# Altium footprint library диоды.PcbLib: 19 footprints (part 1 of 2)
Each footprint in its own frame and in the unit in brackets; x right, y up, seen from the top. Pads: shape width x height; smd on the part's side, far side on the other; paste and mask are expansions set on the pad; w line width, h text height; cw(c..) or ccw(c..) is an arc to the next point about the centre after c.
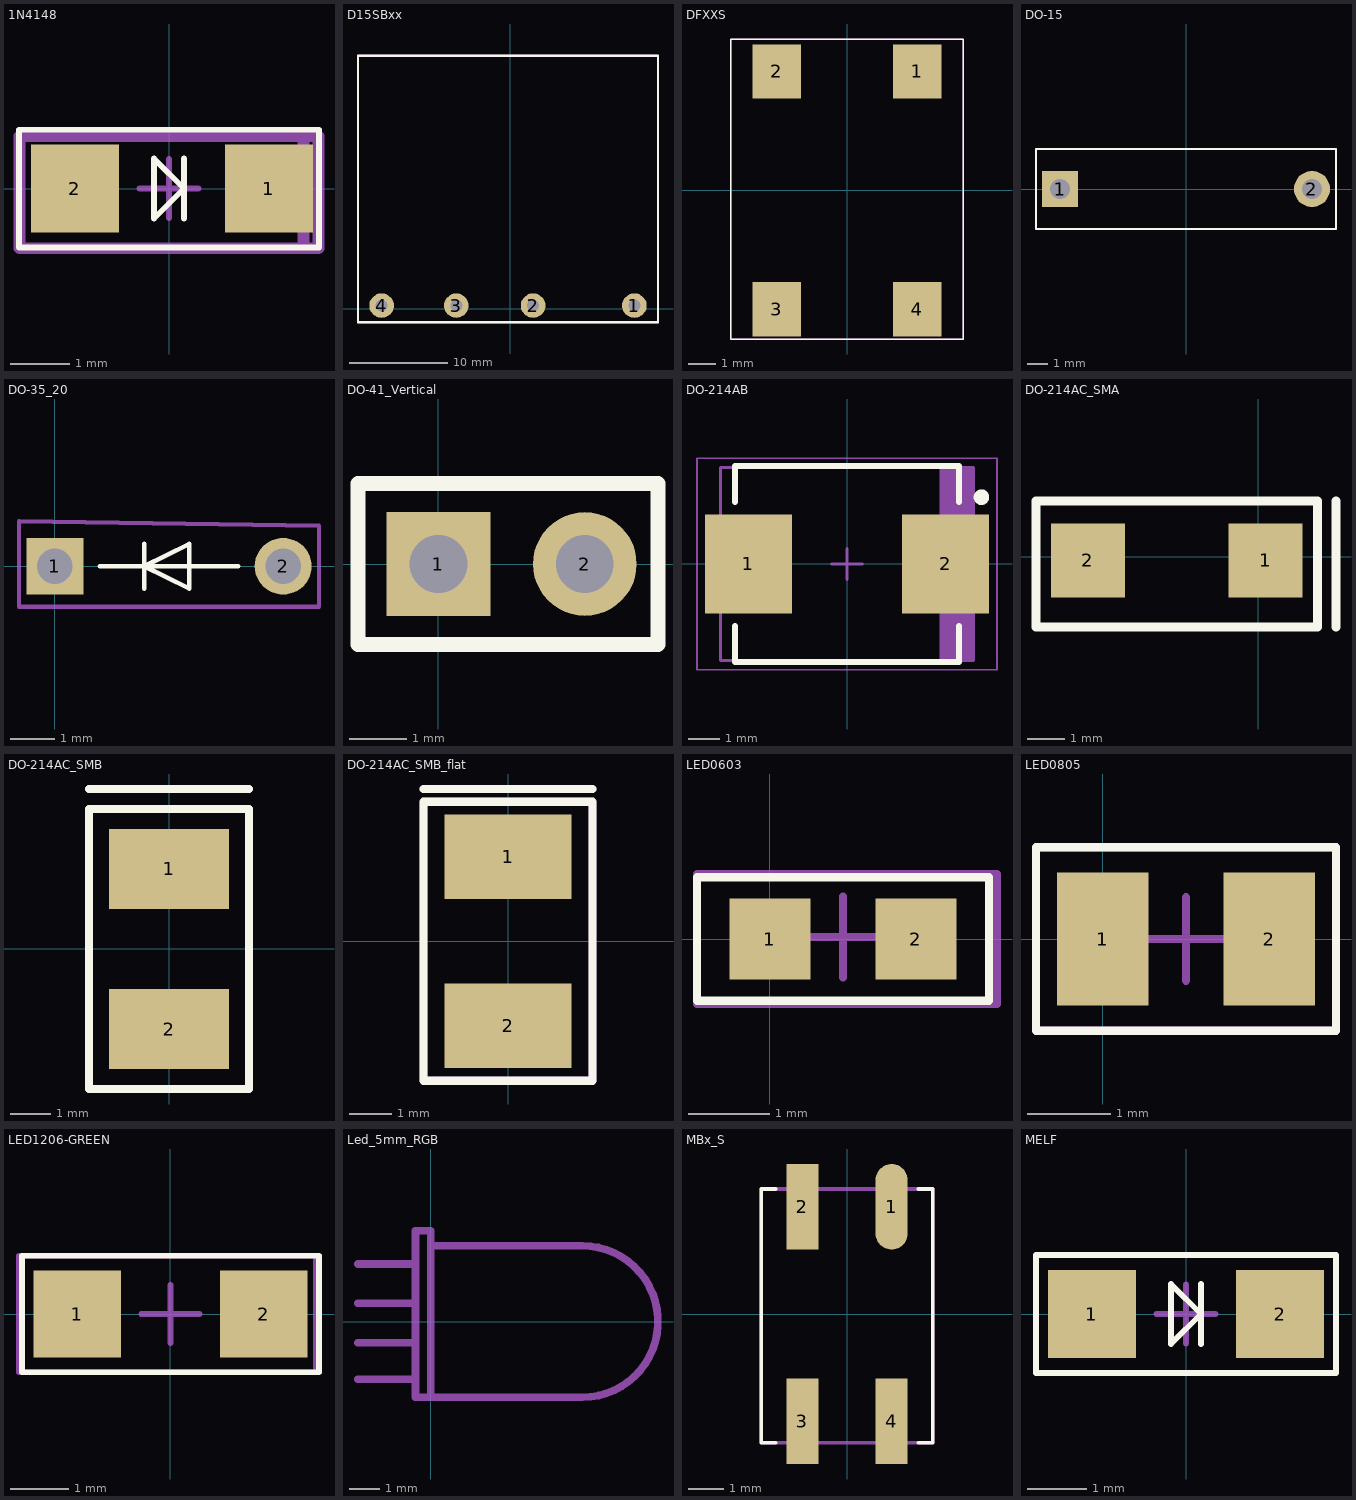
[diagram p0: the footprints below, top view; thin cyan lines are the x and y axes]

## 1N4148 [mm]
pads (2):
  rect 1.5x1.5 smd: 1(1.7,0) 2(-1.6,0)
Top Overlay:
  lines w0.1: 0.254,-0.508 0.254,0.508 ; -2.55,-1 2.55,-1 2.55,1 -2.55,1 -2.55,-1 ; -0.254,-0.508 -0.254,0.508 0.254,0 -0.254,-0.508
Top Assy:
  lines w0.2: 2.286,-1.016 2.286,0.889 ; -2.54,-1.016 -2.54,0.889 2.54,0.889 2.54,-1.016 -2.54,-1.016
  text ".Designator" at -2.14,0.284 h1.52
Mechanical 15:
  lines w0.1: -0.5,0 0.5,0 ; 0,-0.5 0,0.5
3D body "LL4148.step": height 1.6, standoff 0, extent -1.82,-0.8 1.88,0.8

## D15SBxx [mm]
pads (4):
  round 2.5 hole 1.2: 1(12.6,0.3) 2(2.3,0.3) 3(-5.5,0.3) 4(-13.1,0.3)
Top Overlay:
  lines w0.254: -15.5,-1.4 15,-1.4 15,25.7 -15.5,25.7 -15.5,-1.4
Top Assy:
  lines w0.254: -15.5,-1.4 -15.5,25.7 15,25.7 15,-1.4 -15.5,-1.4
  text ".Designator" at -5.6,14.6 h1
3D body "D15SB100.stp": height 5, standoff -1.4, extent -15.45,-0.1 14.85,25.6

## DFXXS [mm]
pads (4):
  rect 1.8x2 smd: 1(2.6,4.4) 2(-2.6,4.4) 3(-2.6,-4.4) 4(2.6,-4.4)
Top Overlay:
  lines w0.05: -4.3,-5.5 -4.3,5.6 4.3,5.6 4.3,-5.5 -4.3,-5.5
Top Assy:
  lines w0.05: -4.3,-5.5 -4.3,5.6 4.3,5.6 4.3,-5.5 -4.3,-5.5
3D body "мост_DFXXS.step": height 3.55, standoff -0.02, extent -4.255,-5.15 4.255,5.15

## DO-15 [mm]
pads (2):
  rect 1.8x1.8 hole 1: 1(-6.3,0)
  round 1.8 hole 1: 2(6.3,0)
Top Overlay:
  lines w0.1: -7.5,-2 -7.5,2 7.5,2 7.5,-2 -7.5,-2
Top Assy:
  lines w0.1: -7.5,-2 -7.5,2 ; -7.5,-2 7.5,-2 7.5,2 -7.5,2 ; -7.5,-2 -7.5,2
  text ".Designator" at -3.1,-0.4 h1
3D body "DO-15 12_7mm.step": height 5, standoff -2.5, extent -6.78,-2 6.78,2

## DO-35_20 [mm]
pads (2):
  rect 1.27x1.27 hole 0.8: 1(0,0)
  round 1.27 hole 0.8: 2(5.1,0)
Top Overlay:
  lines w0.1: 1,0 4.1,0 ; 2,-0.5 2,0.5 ; 2,0 3,0.5 3,-0.5 2,0
Top Assy:
  lines w0.1: -0.8,-0.9 -0.8,1 5.9,0.9 5.9,-0.9 -0.8,-0.9
3D body "DO-35G-20.step": height 1.82, standoff -2, extent -0.215,-0.901 5.415,0.901

## DO-41_Vertical [mm]
pads (2):
  rect 1.8x1.8 hole 1: 1(0,0)
  round 1.8 hole 1: 2(2.54,0)
Top Overlay:
  lines w0.254: -1.397,-1.397 -1.397,1.397 3.81,1.397 3.81,-1.397 -1.397,-1.397
3D body "User Library-Diod DO-41 Vertical.STEP": height 9.64, standoff -4.5, extent -1.365,-1.365 2.97,1.365

## DO-214AB [mm] "DO-214AB, SMC"
height 2.6
pads (2):
  rect 2.8x3.2 smd: 1(-3.175,0) 2(3.175,0)
Top Overlay:
  circle w0.25: c4.325,2.15 r0.125
  lines w0.2: -3.6,-2 -3.6,-3.15 3.6,-3.15 3.6,-2 ; -3.6,2 -3.6,3.15 3.6,3.15 3.6,2
Mechanical 13:
  rectangle: 2.972,-3.11 4.065,3.11
  lines w0.1: -4.065,-3.11 -4.065,3.11 4.065,3.11 4.065,-3.11 -4.065,-3.11
Mechanical 15:
  lines w0.05: -4.825,-3.4 -4.825,3.4 4.825,3.4 4.825,-3.4 -4.825,-3.4
  lines w0.1: -0.5,0 0.5,0 ; 0,-0.5 0,0.5
3D body "User Library-DO-214AB(SMC).STEP": height 2.62, standoff -0.02, extent -4.264,-3.15 3.864,3.15

## DO-214AC_SMA [mm]
pads (2):
  rect 2x2 smd: 1(0.2,-0.1) 2(-4.6,-0.1)
Top Overlay:
  lines w0.254: 2.1,-1.9 2.1,1.5 ; -6,-1.9 -6,1.5 -5.5,1.5 1.6,1.5 1.6,-1.9 -5.5,-1.9 -6,-1.9
3D body "User Library-DO-214AC(SMA).STEP": height 2.34, standoff 0.06, extent -4.943,-1.597 0.543,1.197

## DO-214AC_SMB [mm]
pads (2):
  rect 3x2 smd: 1(0,2) 2(0,-2)
Top Overlay:
  lines w0.2: -2,4 2,4 ; -2,-3.5 2,-3.5 2,3.5 -2,3.5 -2,-3.5
Top Assy:
  lines w0.2: -2,4 2,4 ; -2,-3.5 2,-3.5 2,3.5 -2,3.5 -2,-3.5
  text ".Designator" at -0.4,3 h1.52
3D body "DO-214AA SMB.step": height 2.4, standoff 0.1, extent -1.8,-2.7 1.8,2.7

## DO-214AC_SMB_flat [mm]
pads (2):
  rect 3x2 smd: 1(0,2) 2(0,-2)
Top Overlay:
  lines w0.2: -2,3.6 2,3.6 ; -2,-3.3 2,-3.3 2,3.3 -2,3.3 -2,-3.3
Top Assy:
  lines w0.2: -2,3.6 2,3.6 ; -2,-3.3 2,-3.3 2,3.3 -2,3.3 -2,-3.3
  text ".Designator" at -0.4,3 h1.52
3D body "SMBflat.step": height 1, standoff 0, extent -1.975,-2.9 1.975,2.9

## LED0603 [mm]
pads (2):
  rect 1x1 smd: 1(0,0) 2(1.8,0)
Top Overlay:
  lines w0.1: -0.9,-0.762 2.7,-0.762 2.7,0.762 -0.9,0.762 -0.9,-0.762
Top Assy:
  lines w0.1: -0.9,-0.8 -0.9,0.8 2.8,0.8 2.8,-0.8 -0.9,-0.8
  text ".Designator" at -2,-0.3 h1.52
Mechanical 15:
  lines w0.1: 0.4,0.025 1.4,0.025 ; 0.9,-0.475 0.9,0.525
3D body "R0603.STEP": height 0.56, standoff 0, extent 0.05,-0.375 1.75,0.425

## LED0805 [mm]
pads (2):
  rect 1.1x1.6 smd: 1(0,0) 2(2,0)
Top Overlay:
  lines w0.1: -0.8,-1.1 -0.8,1.1 2.8,1.1 2.8,-1.1 -0.8,-1.1
Top Assy:
  lines w0.1: -0.8,-1.1 2.8,-1.1 2.8,1.1 -0.8,1.1 -0.8,-1.1
  text ".Designator" at -2.1,-0.4 h1.52
Mechanical 15:
  lines w0.1: 0.5,0 1.5,0 ; 1,-0.5 1,0.5
3D body "R0805.STEP": height 0.76, standoff 0, extent -0.15,-0.675 2.15,0.675

## LED1206-GREEN [mm]
pads (2):
  rect 1.5x1.5 smd: 1(-1.6,0) 2(1.6,0)
Top Overlay:
  lines w0.1: -2.55,-1 -2.55,1 2.55,1 2.55,-1 -2.55,-1
Top Assy:
  lines w0.1: -2.6,-1 -2.6,1 2.5,1 2.5,-1 -2.6,-1
  text ".Designator" at -3,-0.4 h1.52
Mechanical 15:
  lines w0.1: -0.5,0 0.5,0 ; 0,-0.5 0,0.5
3D body "LED 1206.STEP": height 1.1, standoff 0, extent -1.6,-0.8 1.6,0.8

## Led_5mm_RGB [mm]
Mechanical 15:
  lines w0.254: -2.4,-1.9 -0.5,-1.9 ; -2.4,-0.7 -0.5,-0.7 ; -2.4,0.6 -0.5,0.6 ; -2.4,1.9 -0.5,1.9 ; 0,2.5 5,2.5 cw(c5,0) 5,-2.5 0,-2.5 ; 0,-2.5 0,3 -0.5,3 -0.5,-2.5 0,-2.5

## MBx_S [mm]
pads (4):
  oval 0.9x2.4 smd: 1(1.25,3)
  rect 0.9x2.4 smd: 2(-1.25,3) 3(-1.25,-3) 4(1.25,-3)
Top Overlay:
  lines w0.1: -2,-3.6 -2.4,-3.6 -2.4,3.5 -2,3.5 ; 2,-3.6 2.4,-3.6 2.4,3.5 2,3.5
Top Assy:
  lines w0.1: -2.4,-3.6 2.4,-3.6 2.4,3.5 -2.4,3.5 -2.4,-3.6
  text ".Designator" at -3,-0.3 h1.52
3D body "MB6S.step": height 2.9, standoff 0, extent -2.362,-3.35 2.363,3.35

## MELF [mm]
pads (2):
  rect 1.5x1.5 smd: 1(-1.6,0) 2(1.6,0)
Top Overlay:
  lines w0.1: 0.254,-0.508 0.254,0.508 ; -2.55,-1 -2.55,1 2.55,1 2.55,-1 -2.55,-1 ; -0.254,-0.508 0.254,0 -0.254,0.508 -0.254,-0.508
Mechanical 15:
  lines w0.1: -0.5,0 0.5,0 ; 0,-0.5 0,0.5
3D body "MELF.step": height 1.5, standoff 0, extent -1.75,-0.75 1.75,0.75